# Altium footprint library DEBUG_PIPE_TOP_ONLY.PcbLib: 1 footprints
Each footprint in its own frame and in the unit in brackets; x right, y up, seen from the top. Pads: shape width x height; smd on the part's side, far side on the other; paste and mask are expansions set on the pad; w line width, h text height; cw(c..) or ccw(c..) is an arc to the next point about the centre after c.
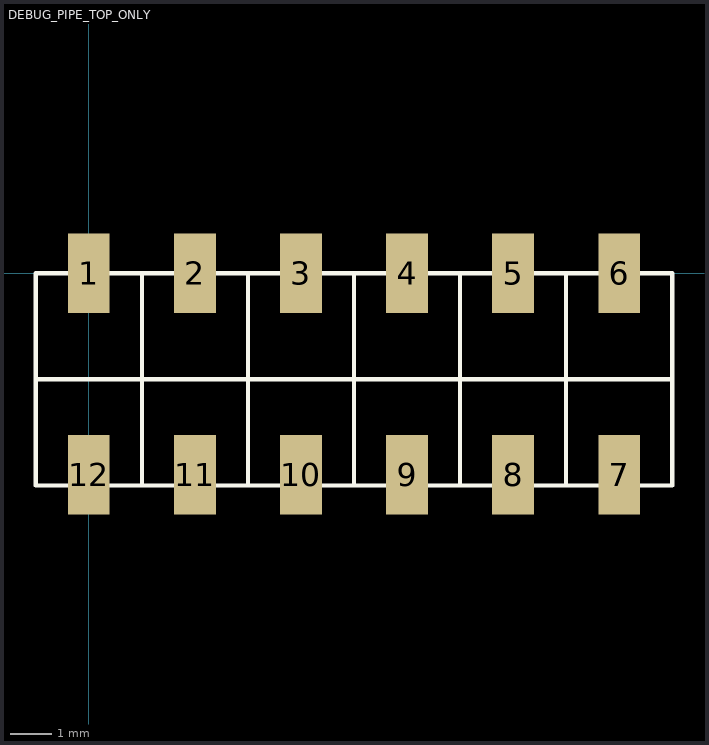
[diagram p0: the footprint, top view; thin cyan lines are the x and y axes]

## DEBUG_PIPE_TOP_ONLY [mm]
pads (12):
  rect 1x1.9 smd: 1(0,0) 2(2.54,0) 3(5.08,0) 4(7.62,0) 5(10.16,0) 6(12.7,0) 7(12.7,-4.826) 8(10.16,-4.826) 9(7.62,-4.826) 10(5.08,-4.826) 11(2.54,-4.826) 12(0,-4.826)
Top Overlay:
  lines w0.1: -1.27,-2.54 13.97,-2.54 ; 1.27,-5.08 1.27,0 ; 3.81,-5.08 3.81,0 ; 6.35,-5.08 6.35,0 ; 8.89,-5.08 8.89,0 ; 11.43,-5.08 11.43,0 ; -1.27,-5.08 13.97,-5.08 13.97,0 -1.27,0 -1.27,-5.08